# Altium schematic symbol library ulysses_library.SchLib: 185 symbols (part 2 of 2)
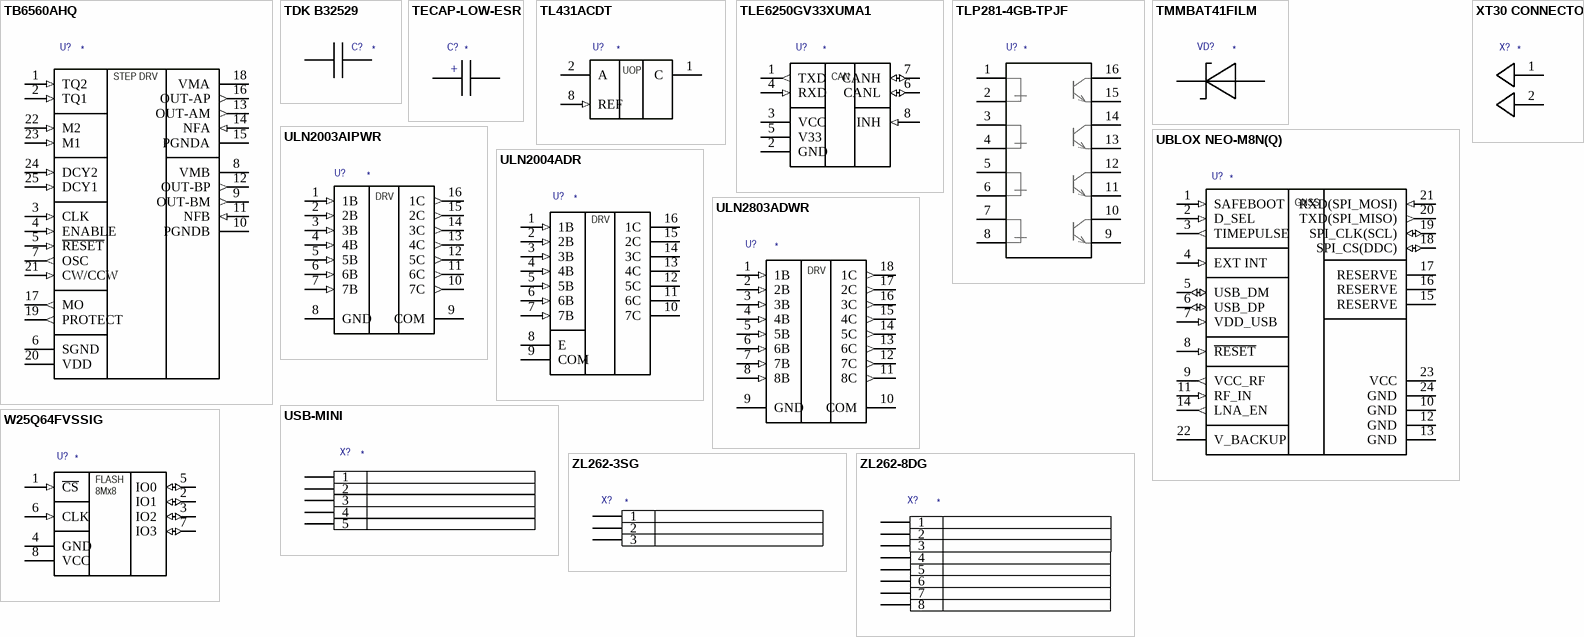
[diagram p7: symbols TB6560AHQ to ZL262-8DG]

## XT30 CONNECTOR
designator X?
HIGH POWER CONNECTOR
footprint XT30
pins: 1 X, 2 X

## ZL262-3SG
designator X?
footprint ZL262-3SG
pins: 1, 2, 3

## ZL262-8DG
designator X?
2x4 CONNECTOR
footprint ZL262-8DG (2x4 CONNECTOR)
pins: 1, 2, 3, 4, 5, 6, 7, 8